# EAGLE library part 8X1-OPT3002 (library TIcustom)
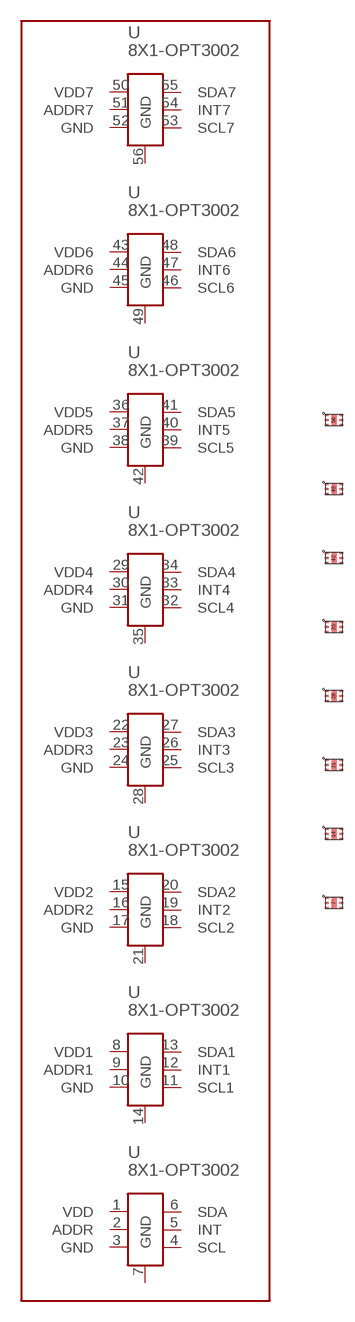
[diagram p1: symbol with the pads of 8X1-OPT3002; footprint 8X1-OPT3002]

Designator prefix -

## 8X1-OPT3002  [8X1-OPT3002]
1  VDD
2  ADDR
3  GND
4  SCL
5  INT
6  SDA
7  GND
8  VDD1
9  ADDR1
10  GND
11  SCL1
12  INT1
13  SDA1
14  GND
15  VDD2
16  ADDR2
17  GND
18  SCL2
19  INT2
20  SDA2
21  GND
22  VDD3
23  ADDR3
24  GND
25  SCL3
26  INT3
27  SDA3
28  GND
29  VDD4
30  ADDR4
31  GND
32  SCL4
33  INT4
34  SDA4
35  GND
36  VDD5
37  ADDR5
38  GND
39  SCL5
40  INT5
41  SDA5
42  GND
43  VDD6
44  ADDR6
45  GND
46  SCL6
47  INT6
48  SDA6
49  GND
50  VDD7
51  ADDR7
52  GND
53  SCL7
54  INT7
55  SDA7
56  GND

## Footprint 8X1-OPT3002 (pad centres in mm)
smd 0.5 x 0.25: 1 -0.95,0.56; 2 -0.95,-0.09; 3 -0.95,-0.74; 4 0.95,-0.74; 5 0.95,-0.09; 6 0.95,0.56; 8 -0.95,8.91; 9 -0.95,9.56; 10 -0.95,8.26; 11 0.95,8.91; 12 0.95,9.56; 13 0.95,8.26; 15 -0.95,17.91; 16 -0.95,18.56; 17 -0.95,17.26; 18 0.95,17.91; 19 0.95,18.56; 20 0.95,17.26; 22 -0.95,26.91; 23 -0.95,27.56; 24 -0.95,26.26; 25 0.95,26.91; 26 0.95,27.56; 27 0.95,26.26; 29 -0.95,35.91; 30 -0.95,36.56; 31 -0.95,35.26; 32 0.95,35.91; 33 0.95,36.56; 34 0.95,35.26; 36 -0.95,44.91; 37 -0.95,45.56; 38 -0.95,44.26; 39 0.95,44.91; 40 0.95,45.56; 41 0.95,44.26; 43 -0.95,53.91; 44 -0.95,54.56; 45 -0.95,53.26; 46 0.95,53.91; 47 0.95,54.56; 48 0.95,53.26; 50 -0.95,62.91; 51 -0.95,63.56; 52 -0.95,62.26; 53 0.95,62.91; 54 0.95,63.56; 55 0.95,62.26
smd 0.65 x 1.35: 7 0,-0.09; 14 0,8.91; 21 0,17.91; 28 0,26.91; 35 0,35.91; 42 0,44.91; 49 0,53.91; 56 0,62.91